# EAGLE library part STN1110 (library PP_DigitalIC)
Manufacturer Part #: STN1110 Manufacturer: OBD Solutions Description: Multiprotocol OBD to UART Interpreter
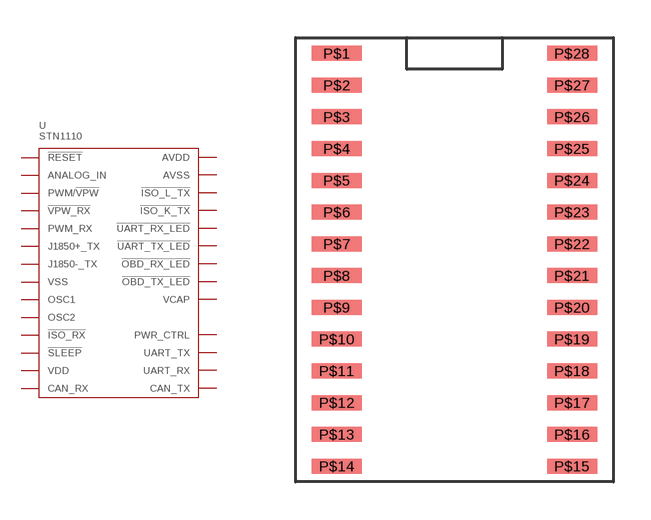
[diagram p22: symbol with the pads of STN1110_SOIC-28W; footprint STN1110_SOIC-28W]

Designator prefix U

## STN1110_SOIC-28W  [STN1110_SOIC-28W]
P$1  !RESET
P$2  ANALOG_IN
P$3  PWM/!VPW
P$4  !VPW_RX
P$5  PWM_RX
P$6  J1850+_TX
P$7  J1850-_TX
P$8  VSS
P$9  OSC1
P$10  OSC2
P$11  !ISO_RX
P$12  !SLEEP
P$13  VDD
P$14  CAN_RX
P$15  CAN_TX
P$16  UART_RX
P$17  UART_TX
P$18  PWR_CTRL
P$19  VSS
P$20  VCAP
P$21  !OBD_TX_LED
P$22  !OBD_RX_LED
P$23  !UART_TX_LED
P$24  !UART_RX_LED
P$25  !ISO_K_TX
P$26  !ISO_L_TX
P$27  AVSS
P$28  AVDD

## Footprint STN1110_SOIC-28W (pad centres in mm)
smd 2 x 0.6: P$1 -4.7,8.255; P$2 -4.7,6.985; P$3 -4.7,5.715; P$4 -4.7,4.445; P$5 -4.7,3.175; P$6 -4.7,1.905; P$7 -4.7,0.635; P$8 -4.7,-0.635; P$9 -4.7,-1.905; P$10 -4.7,-3.175; P$11 -4.7,-4.445; P$12 -4.7,-5.715; P$13 -4.7,-6.985; P$14 -4.7,-8.255; P$15 4.7,-8.255; P$16 4.7,-6.985; P$17 4.7,-5.715; P$18 4.7,-4.445; P$19 4.7,-3.175; P$20 4.7,-1.905; P$21 4.7,-0.635; P$22 4.7,0.635; P$23 4.7,1.905; P$24 4.7,3.175; P$25 4.7,4.445; P$26 4.7,5.715; P$27 4.7,6.985; P$28 4.7,8.255